# EAGLE library part 046809610110846+ (library 046809610110846+)
10 Position FFC, FPC Connector Contacts, Bottom 0.020" (0.50mm) Surface Mount, Right Angle Source: Datasheet <https://ele.kyocera.com/assets/products/connector/drawing/BJS6809004.pdf>
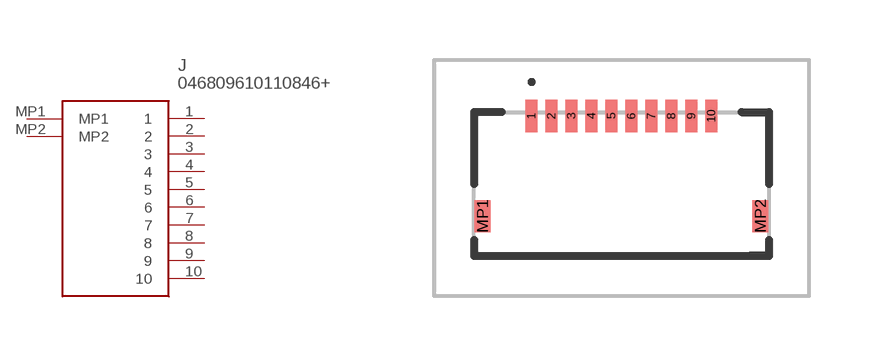
[diagram p0: symbol with the pads of 046809610110846; footprint 046809610110846]

Designator prefix J

## 046809610110846+ (Description: 10 Position FFC, FPC Connector Contacts, Bottom 0.020" (0.50mm) Surface Mount, Right Angle; Height: 1.03mm; Manufacturer_Name: Kyocera AVX; Manufacturer_Part_Number: 046809610110846+; Mouser_Part_Number: 346-046809610110846+; Mouser_Price-Stock: https://www.mouser.co.uk/ProductDetail/Kyocera-Electronic-Components/046809610110846%2b?qs=PzGy0jfpSMtD0JCHOxaC5w%3D%3D)  [046809610110846]
1  1
2  2
3  3
4  4
5  5
6  6
7  7
8  8
9  9
10  10
MP1  MP1
MP2  MP2

## Footprint 046809610110846 (pad centres in mm)
046809610110846+-3
smd 0.3 x 0.8: 1 -2.25,1.7; 2 -1.75,1.7; 3 -1.25,1.7; 4 -0.75,1.7; 5 -0.25,1.7; 6 0.25,1.7; 7 0.75,1.7; 8 1.25,1.7; 9 1.75,1.7; 10 2.25,1.7
smd 0.4 x 0.8: MP1 -3.475,-0.8; MP2 3.475,-0.8